# Altium footprint library Xtals.PcbLib: 98 footprints (part 2 of 7)
Each footprint in its own frame and in the unit in brackets; x right, y up, seen from the top. Pads: shape width x height; smd on the part's side, far side on the other; paste and mask are expansions set on the pad; w line width, h text height; cw(c..) or ccw(c..) is an arc to the next point about the centre after c.
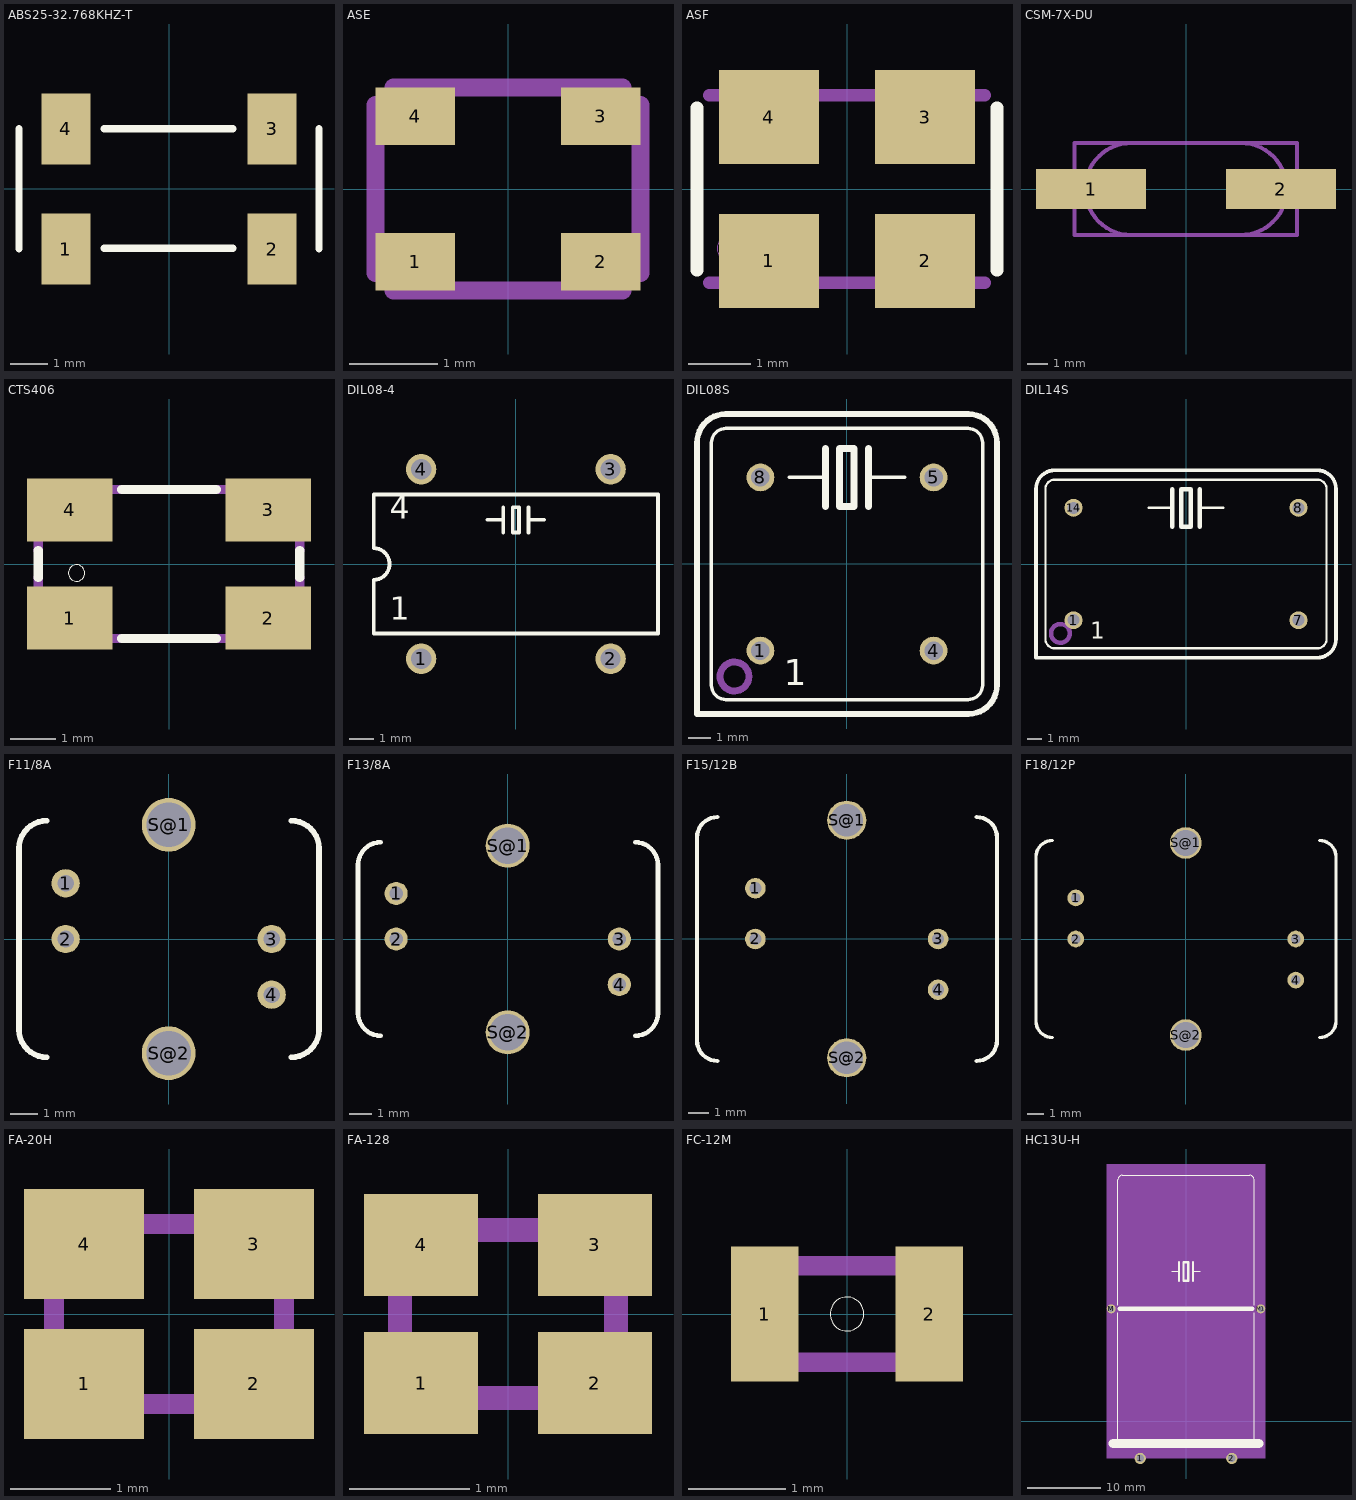
[diagram p1: the footprints below, top view; thin cyan lines are the x and y axes]

## ABS25-32.768KHZ-T [mm]
pads (4):
  rect 1.3x1.9 smd mask+0.14: 1(-2.75,-1.6) 2(2.75,-1.6) 3(2.75,1.6) 4(-2.75,1.6)
Top Overlay:
  lines w0.2: -4,-1.6 -4,1.6 ; -1.727,-1.575 1.702,-1.575 ; -1.727,1.6 1.702,1.6 ; 4,-1.6 4,1.6
3D body "ABS25.STEP": height 2.51, standoff -0.15, extent -4.051,-1.898 3.949,2.102

## ASE [mm]
pads (4):
  rect 0.9x0.65 smd: 1(-1.05,-0.825) 2(1.05,-0.825) 3(1.05,0.825) 4(-1.05,0.825)
Mechanical 16:
  circle w0: c-1,-0.7 r0.18
  lines w0.203: -1.5,-0.95 cw(c-1.5,-1.15) -1.3,-1.15 1.3,-1.15 cw(c1.5,-1.15) 1.5,-0.95 1.5,0.95 cw(c1.5,1.15) 1.3,1.15 -1.3,1.15 cw(c-1.5,1.15) -1.5,0.95 -1.5,-0.95
3D body "User Library-ABRACON_ASE-crystal.step": height 0.55, standoff -0.49, extent -1.7,-1.35 1.7,1.35

## ASF [mil]
pads (4):
  rect 62.99x59.06 smd: 1(-49.21,-45.28) 2(49.21,-45.28) 3(49.21,45.28) 4(-49.21,45.28)
Top Overlay:
  lines w8: -94.49,-51.18 -94.49,51.18 ; 94.49,-51.18 94.49,51.18
Mechanical 16:
  circle w0: c-74.8,-37.4 r7.09
  lines w8: -86.61,-59.06 86.61,-59.06 ; -86.61,59.06 86.61,59.06
3D body "User Library-ASFL1-crystal.STEP": height 51.12, standoff -0.84, extent -98.35,-62.99 98.5,63

## CSM-7X-DU [mm]
pads (2):
  rect 5.5x2 smd: 1(-4.75,0) 2(4.75,0)
Mechanical 16:
  lines w0.203: 2.725,-2.3 ccw(c2.737,0) 2.75,2.3 ; -2.75,-2.3 cw(c-2.737,0) -2.725,2.3 ; -2.75,-2.3 5.55,-2.3 5.55,2.3 2.75,2.3 ; -2.75,-2.3 -5.575,-2.3 -5.575,2.3 -2.725,2.3 ; -2.725,2.3 2.75,2.3
3D body "User Library-ECS-240-20-5PX-TR.step": height 4.3, standoff 0, extent -6.524,-2.425 6.676,2.375

## CTS406 [mil]
pads (4):
  rect 74.8x55.12 smd: 1(-86.61,-47.24) 2(86.61,-47.24) 3(86.61,47.24) 4(-86.61,47.24)
Top Overlay:
  circle w0: c-80.71,-7.87 r7.17
  lines w8: -114.17,-11.81 -114.17,11.81 ; -41.34,-64.96 41.34,-64.96 ; -41.34,64.96 41.34,64.96 ; 114.17,-11.81 114.17,11.81
Mechanical 16:
  lines w8: -114.17,-11.81 -114.17,-48.23 cw(c-114.24,-65.03) -97.44,-64.96 -41.34,-64.96 ; -114.17,11.81 -114.17,48.23 ccw(c-114.24,65.03) -97.44,64.96 -41.34,64.96 ; 41.34,-64.96 97.44,-64.96 cw(c114.24,-65.03) 114.17,-48.23 114.17,-11.81 ; 41.34,64.96 97.44,64.96 ccw(c114.24,65.03) 114.17,48.23 114.17,11.81

## DIL08-4 [mil]
pads (4):
  round 48 hole 32: 1(-150,-150) 2(150,-150) 3(150,150) 4(-150,150)
Top Overlay:
  lines w6: -45,70 -20,70 ; -20,50 -20,70 ; -20,90 -20,70 ; 20,50 20,70 ; 20,90 20,70 ; 45,70 20,70 ; -225,-110 -225,-25 ccw(c-225,0) -225,25 -225,110 225,110 225,-110 -225,-110 ; -5,50 -5,90 5,90 5,50 -5,50
  text "1" at -200,-100 h62
  text "4" at -200,60 h62

## DIL08S [mil]
pads (4):
  round 48 hole 32: 1(-150,-150) 4(150,-150) 5(150,150) 8(-150,150)
Top Overlay:
  lines w6: -100,150 -37,150 ; 37,150 100,150 ; -235,-210 ccw(c-210,-210) -210,-235 210,-235 ccw(c210,-210) 235,-210 235,210 ccw(c210,210) 210,235 -210,235 ccw(c-210,210) -235,210 -235,-210
  lines w10: -260,-260 210,-260 ccw(c210,-210) 260,-210 260,210 ccw(c210,210) 210,260 -210,260 ccw(c-210,210) -260,210 -260,-260
  lines w12: -37,100 -37,150 -37,200 ; 37,100 37,150 37,200 ; -13,100 -13,200 12,200 12,100 -13,100
  text "1" at -110,-225 h77.5
Mechanical 16:
  circle w12: c-195,-195 r25

## DIL14S [mil]
pads (4):
  round 48 hole 32: 1(-300,-150) 7(300,-150) 8(300,150) 14(-300,150)
Top Overlay:
  lines w6: -100,150 -37,150 ; 37,150 100,150 ; -375,-200 ccw(c-350,-200) -350,-225 350,-225 ccw(c350,-200) 375,-200 375,200 ccw(c350,200) 350,225 -350,225 ccw(c-350,200) -375,200 -375,-200
  lines w10: -400,-250 -400,200 cw(c-350,200) -350,250 350,250 cw(c350,200) 400,200 400,-200 cw(c350,-200) 350,-250 -400,-250
  lines w12: -37,100 -37,150 -37,200 ; 37,100 37,150 37,200 ; -13,100 12,100 12,200 -13,200 -13,100
  text "1" at -255,-215 h77.5
Mechanical 16:
  circle w12: c-335,-185 r25

## F11/8A [mil]
pads (6):
  round 40 hole 23.62: 1(-145.67,78.74) 2(-145.67,0) 3(145.67,0) 4(145.67,-78.74)
  round 76 hole 62.99: S@1(0,161.42) S@2(0,-161.42)
Top Overlay:
  lines w8: -172.24,-167.32 cw(c-172.24,-127.95) -211.61,-127.95 -211.61,127.95 cw(c-172.24,127.95) -172.24,167.32 ; 173.23,-167.32 ccw(c173.23,-127.95) 212.6,-127.95 212.6,127.95 ccw(c173.23,127.95) 173.23,167.32

## F13/8A [mil]
pads (6):
  round 40 hole 23.62: 1(-192.91,78.74) 2(-192.91,0) 3(192.91,0) 4(192.91,-78.74)
  round 76 hole 62.99: S@1(0,161.42) S@2(0,-161.42)
Top Overlay:
  lines w8: -219.49,-167.32 cw(c-219.49,-127.95) -258.86,-127.95 -258.86,127.95 cw(c-219.49,127.95) -219.49,167.32 ; 220.47,-167.32 ccw(c220.47,-127.95) 259.84,-127.95 259.84,127.95 ccw(c220.47,127.95) 220.47,167.32

## F15/12B [mil]
pads (6):
  round 40 hole 23.62: 1(-177.17,98.43) 2(-177.17,0) 3(177.17,0) 4(177.17,-98.43)
  round 76 hole 62.99: S@1(0,230.32) S@2(0,-230.32)
Top Overlay:
  lines w8: -250.98,-236.22 cw(c-250.98,-196.85) -290.35,-196.85 -290.35,196.85 cw(c-250.98,196.85) -250.98,236.22 ; 251.97,-236.22 ccw(c251.97,-196.85) 291.34,-196.85 291.34,196.85 ccw(c251.97,196.85) 251.97,236.22

## F18/12P [mil]
pads (6):
  round 40 hole 23.62: 1(-263.78,98.43) 2(-263.78,0) 3(263.78,0) 4(263.78,-98.43)
  round 76 hole 62.99: S@1(0,230.32) S@2(0,-230.32)
Top Overlay:
  lines w8: -319.88,-236.22 cw(c-319.88,-196.85) -359.25,-196.85 -359.25,196.85 cw(c-319.88,196.85) -319.88,236.22 ; 320.87,-236.22 ccw(c320.87,-196.85) 360.24,-196.85 360.24,196.85 ccw(c320.87,196.85) 320.87,236.22

## FA-20H [mil]
pads (4):
  rect 47.24x43.31 smd: 1(-33.46,-27.56) 2(33.46,-27.56) 3(33.46,27.56) 4(-33.46,27.56)
Top Paste:
  rectangle: -55.12,7.87 -11.81,47.24
  rectangle: 11.81,7.87 55.12,47.24
  rectangle: -55.12,-47.24 -11.81,-7.87
  region: 0,0 10,0 10,10 0,10
Top Solder:
  rectangle: -59.06,3.94 -7.87,51.18
  rectangle: 7.87,3.94 59.06,51.18
  rectangle: -59.06,-51.18 -7.87,-3.94
  region: 0,0 10,0 10,10 0,10
Mechanical 16:
  lines w8: -45.28,-35.43 45.28,-35.43 45.28,35.43 -45.28,35.43 -45.28,-35.43

## FA-128 [mil]
pads (4):
  rect 37.4x33.46 smd: 1(-28.54,-22.64) 2(28.54,-22.64) 3(28.54,22.64) 4(-28.54,22.64)
Top Paste:
  rectangle: -45.28,7.87 -11.81,37.4
  rectangle: 11.81,7.87 45.28,37.4
  rectangle: -45.28,-37.4 -11.81,-7.87
  region: 0,0 10,0 10,10 0,10
Top Solder:
  rectangle: -49.21,3.94 -7.87,41.34
  rectangle: 7.87,3.94 49.21,41.34
  rectangle: -49.21,-41.34 -7.87,-3.94
  region: 0,0 10,0 10,10 0,10
Mechanical 16:
  lines w8: -35.43,-27.56 35.43,-27.56 35.43,27.56 -35.43,27.56 -35.43,-27.56

## FC-12M [mil]
pads (2):
  rect 27.56x55.12 smd: 1(-33.46,0) 2(33.46,0)
Top Overlay:
  circle w0: c0,0 r6.89
Mechanical 16:
  lines w8: -36.42,-19.69 36.42,-19.69 36.42,19.69 -36.42,19.69 -36.42,-19.69

## HC13U-H [mil]
pads (4):
  round 60 hole 40: 1(-245,-200) 2(245,-200)
  round 48 hole 32: M(-400,600) M1(400,600)
Top Overlay:
  lines w6: -365,-120 -365,580 ; -365,620 -365,1290 cw(c-340,1290) -340,1315 340,1315 cw(c340,1290) 365,1290 365,620 ; -75,800 -37,800 ; 37,800 75,800 ; 365,-120 365,580
  lines w12: -37,750 -37,800 -37,850 ; 37,750 37,800 37,850 ; -13,750 -13,850 12,850 12,750 -13,750
  lines w24: -355,600 355,600
  lines w50: -390,-120 -365,-120 365,-120 390,-120
Mechanical 10:
  rectangle: -425,-200 425,1375
Mechanical 16:
  lines w6: -365,580 -365,620 ; 365,580 365,620
  lines w24: -400,600 -360,600 ; 360,600 400,600
  lines w32: -245,-200 -245,-125 ; 245,-200 245,-125